# Altium footprint library ThermistorAxial-5mm-6mm.PcbLib: 1 footprints
Each footprint in its own frame and in the unit in brackets; x right, y up, seen from the top. Pads: shape width x height; smd on the part's side, far side on the other; paste and mask are expansions set on the pad; w line width, h text height; cw(c..) or ccw(c..) is an arc to the next point about the centre after c.
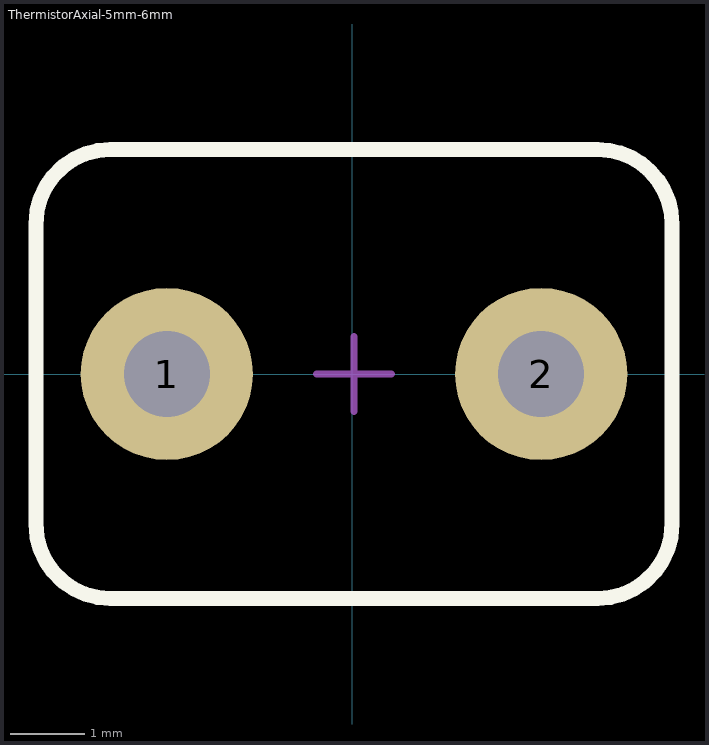
[diagram p0: the footprint, top view; thin cyan lines are the x and y axes]

## ThermistorAxial-5mm-6mm [mm]
pads (2):
  round 2.3 hole 1.15: 1(-2.477,0.006) 2(2.523,0.006)
Top Overlay:
  lines w0.2: -4.227,-1.994 ccw(c-3.227,-1.994) -3.227,-2.994 3.273,-2.994 ccw(c3.273,-1.994) 4.273,-1.994 4.273,2.006 ccw(c3.273,2.006) 3.273,3.006 -3.227,3.006 ccw(c-3.227,2.006) -4.227,2.006 -4.227,-1.994
Mechanical 8:
  lines w0.1: -2.977,0.006 -2.477,0.006 ; -2.477,-0.494 -2.477,0.006 ; -2.477,0.506 -2.477,0.006 ; -1.977,0.006 -2.477,0.006 ; -0.477,0.006 0.023,0.006 ; 0.023,-0.494 0.023,0.006 ; 0.023,0.506 0.023,0.006 ; 0.523,0.006 0.023,0.006 ; 2.023,0.006 2.523,0.006 ; 2.523,-0.494 2.523,0.006 ; 2.523,0.506 2.523,0.006 ; 3.023,0.006 2.523,0.006
Mechanical 14:
  lines w0.1: -4.227,-1.994 ccw(c-3.227,-1.994) -3.227,-2.994 3.273,-2.994 ccw(c3.273,-1.994) 4.273,-1.994 4.273,2.006 ccw(c3.273,2.006) 3.273,3.006 -3.227,3.006 ccw(c-3.227,2.006) -4.227,2.006 -4.227,-1.994
3D body "THERM_EPCOS_B57153S0.stp": height 13, standoff -3.8, extent -4.227,-2.994 4.273,3.006